# EAGLE library part RAC08 (library divers)
Resistor array 8-fold, common pin
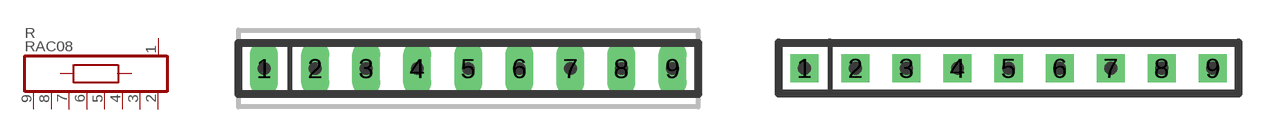
[diagram p3: symbol with the pads of RAC08L; footprints RAC08L, RAC08R]

Designator prefix R

## RAC08L  [RAC08L]
1  0
2  1
3  2
4  3
5  4
6  5
7  6
8  7
9  8

## RAC08R  [RAC08R]
Pads as for RAC08L

## RAC08N  [RAC08N]
Pads as for RAC08L

## RAC08  [RAC08L]
Pads as for RAC08L

## Footprint RAC08L (pad centres in mm)
Resistor array 8-fold, common pin, SIL, long pads
drill 0.813 pad 1.397 long: 1 -10.16,0; 2 -7.62,0; 3 -5.08,0; 4 -2.54,0; 5 0,0; 6 2.54,0; 7 5.08,0; 8 7.62,0; 9 10.16,0

## Footprint RAC08R (pad centres in mm)
Resistor array 8-fold, common pin, SIL, reduced pads
drill 0.813 pad 1.397 square: 1 -10.16,0; 2 -7.62,0; 3 -5.08,0; 4 -2.54,0; 5 0,0; 6 2.54,0; 7 5.08,0; 8 7.62,0; 9 10.16,0

## Footprint RAC08N (pad centres in mm)
Resistor array 8-fold, common pin, SIL
drill 0.813 pad 2.032 octagon: 1 -10.16,0; 2 -7.62,0; 3 -5.08,0; 4 -2.54,0; 5 0,0; 6 2.54,0; 7 5.08,0; 8 7.62,0; 9 10.16,0